# Altium footprint library DO41.PcbLib: 1 footprints
Each footprint in its own frame and in the unit in brackets; x right, y up, seen from the top. Pads: shape width x height; smd on the part's side, far side on the other; paste and mask are expansions set on the pad; w line width, h text height; cw(c..) or ccw(c..) is an arc to the next point about the centre after c.
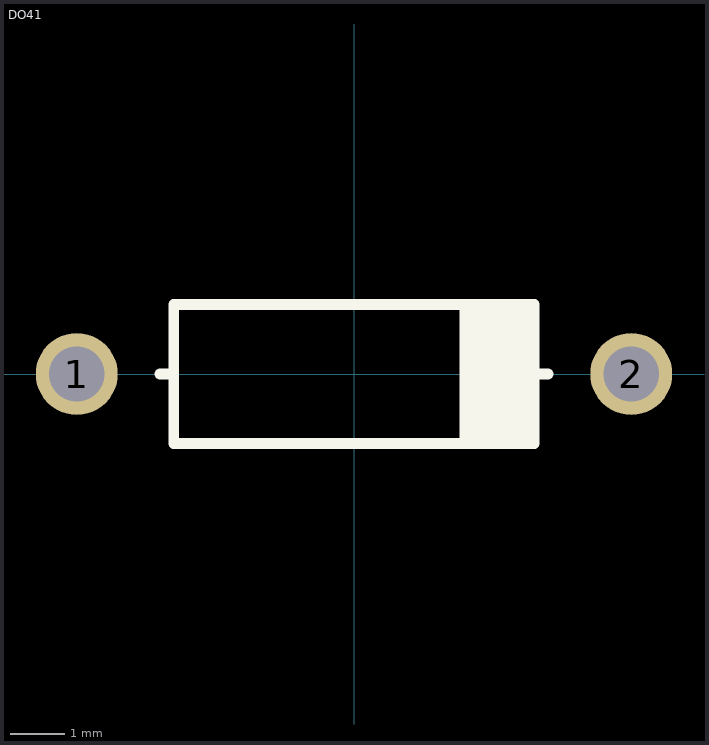
[diagram p0: the footprint, top view; thin cyan lines are the x and y axes]

## DO41 [mm]
pads (2):
  round 1.5 hole 1.016: 1(-5.08,0) 2(5.08,0)
Top Overlay:
  rectangle: 2.032,-1.27 3.302,1.27
  lines w0.2: -3.556,0 -3.302,0 ; 2.032,-1.27 2.032,1.27 ; 3.302,0 3.556,0 ; -3.302,-1.27 -3.302,1.27 3.302,1.27 3.302,-1.27 -3.302,-1.27
3D body: height 2.03, standoff -3.06, extent -5.461,-1.194 5.461,1.372